# Altium footprint library Sensor_Audio.PcbLib: 9 footprints
Each footprint in its own frame and in the unit in brackets; x right, y up, seen from the top. Pads: shape width x height; smd on the part's side, far side on the other; paste and mask are expansions set on the pad; w line width, h text height; cw(c..) or ccw(c..) is an arc to the next point about the centre after c.
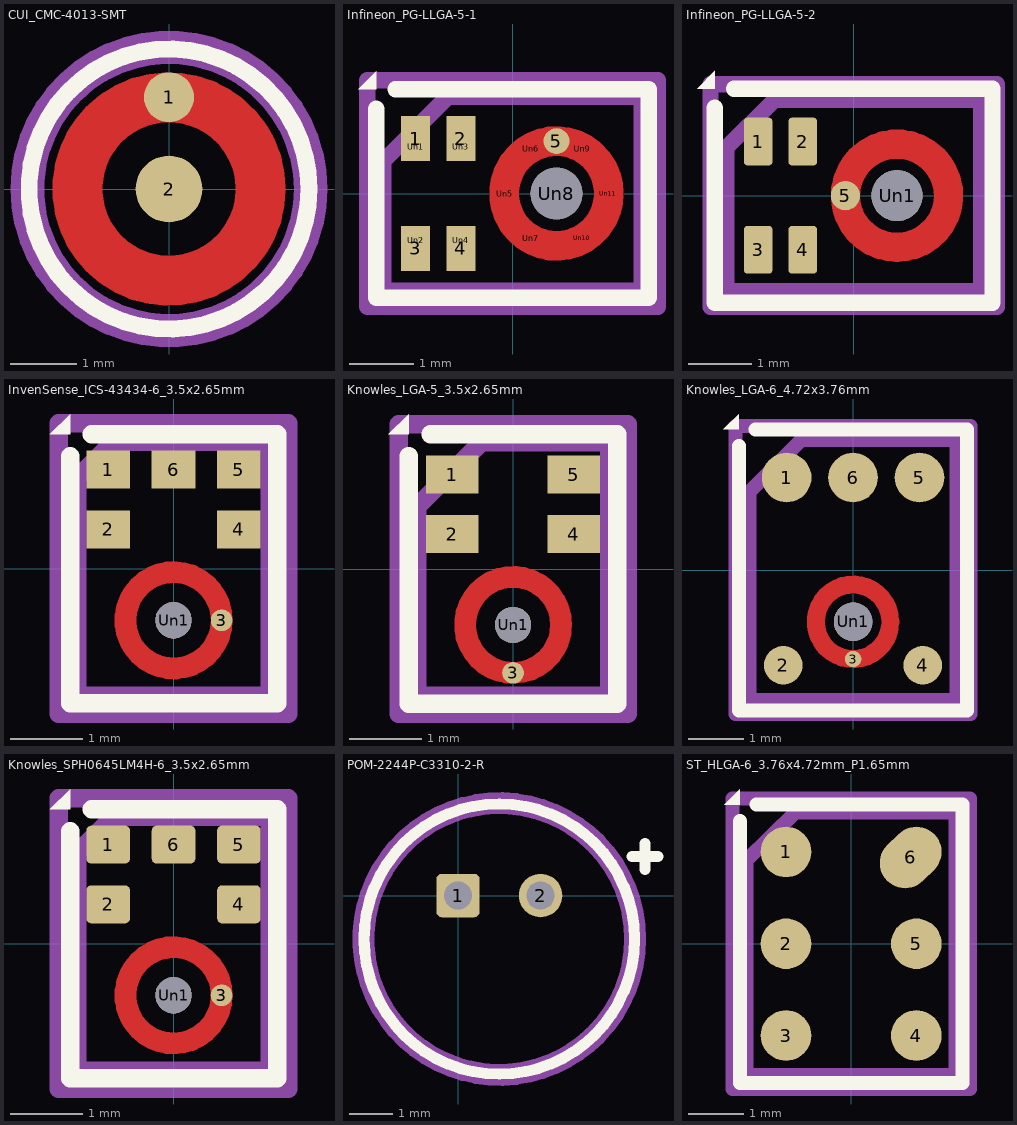
[diagram p0: the footprints below, top view; thin cyan lines are the x and y axes]

## CUI_CMC-4013-SMT [mm]
pads (2):
  round 0.75 smd: 1(0,1.375)
  round 1 smd: 2(0,0)
F.Cu:
  circle w0.75: c0,0 r1.375
F.SilkS:
  circle w0.254: c0,0 r2.1
F.Paste:
  circle w0.75: c0,0 r1.375
F.Mask:
  circle w0.75: c0,0 r1.375
F.Fab:
  circle w0.254: c0,0 r2
  text "'.Designator'" at -3.237,-0.672 h0.8
F.CrtYd:
  circle w0.254: c0,0 r2.25
3D body "CUI_CMC-4013-SMT.step": height 1.3, standoff 0, extent -2,-2 2,2

## Infineon_PG-LLGA-5-1 [mm]
pads (16):
  rect 0.45x0.7 smd: 1(-1.5,0.85) 2(-0.8,0.85) 3(-1.5,-0.85) 4(-0.8,-0.85)
  round 0.4 smd: 5(0.68,0.81)
  round 0.3 on Top Paste: Un1(-1.5,0.725) Un2(-1.5,-0.725) Un3(-0.8,0.725) Un4(-0.8,-0.725) Un5(-0.12,0) Un6(0.28,0.693) Un7(0.28,-0.693) Un9(1.08,0.693) Un10(1.08,-0.693) Un11(1.48,0)
  round 0.8 hole 0.8: Un8(0.68,0)
F.Cu:
  circle w0.46: c0.68,0 r0.81
F.SilkS:
  region: -2.11,1.61 -2.39,1.61 -2.11,1.89
  lines w0.254: -2.11,1.31 -2.11,-1.61 2.11,-1.61 2.11,1.61 -1.81,1.61
F.Paste:
  drawing of 10 lines, arcs and shapes, not listed
F.Mask:
  circle w0.46: c0.68,0 r0.81
F.Fab:
  lines w0.254: -2,-1.5 -2,0.5 -1,1.5 2,1.5 2,-1.5 -2,-1.5
  text "'.Designator'" at -4.047,-0.84 h1
F.CrtYd:
  lines w0.254: -2.25,-1.75 -2.25,1.75 2.25,1.75 2.25,-1.75 -2.25,-1.75

## Infineon_PG-LLGA-5-2 [mm]
pads (6):
  rrect25% 0.45x0.75 smd: 1(-1.5,0.85) 2(-0.8,0.85) 3(-1.5,-0.85) 4(-0.8,-0.85)
  round 0.46 smd: 5(-0.13,0)
  round 0.8 hole 0.8: Un1(0.68,0)
F.Cu:
  circle w0.46: c0.68,0 r0.81
F.SilkS:
  region: -2.18,1.68 -2.46,1.68 -2.18,1.96
  lines w0.254: -2.18,1.38 -2.18,-1.68 2.18,-1.68 2.18,1.68 -1.88,1.68
F.Paste:
  lines w0.254: -1.5,-0.95 -1.5,-0.75 ; -1.5,0.75 -1.5,0.95 ; -0.8,-0.95 -0.8,-0.75 ; -0.8,0.75 -0.8,0.95 ; -0.103,-0.162 cw(c0.68,0) -0.103,0.162 ; 0.148,-0.598 ccw(c0.68,0) 0.428,-0.759 ; 0.148,0.598 cw(c0.68,0) 0.428,0.759 ; 0.932,-0.759 ccw(c0.68,0) 1.212,-0.598 ; 0.932,0.759 cw(c0.68,0) 1.212,0.598 ; 1.463,-0.162 ccw(c0.68,0) 1.463,0.162
F.Mask:
  circle w0.46: c0.68,0 r0.81
F.Fab:
  lines w0.254: -2,-1.5 -2,0.75 -1.25,1.5 2,1.5 2,-1.5 -2,-1.5
  text "'.Designator'" at -2.828,-0.614 h0.7
F.CrtYd:
  lines w0.254: -2.25,-1.75 -2.25,1.75 2.25,1.75 2.25,-1.75 -2.25,-1.75

## InvenSense_ICS-43434-6_3.5x2.65mm [mm]
pads (7):
  rect 0.6x0.522 smd: 1(-0.9,1.364) 2(-0.9,0.542) 4(0.9,0.542) 5(0.9,1.364) 6(0,1.364)
  round 0.3 smd: 3(0.663,-0.71)
  round 0.5 hole 0.5: Un1(0,-0.71)
F.Cu:
  circle w0.3: c0,-0.71 r0.663
F.SilkS:
  region: -1.425,1.85 -1.705,1.85 -1.425,2.13
  lines w0.254: -1.425,1.55 -1.425,-1.85 1.425,-1.85 1.425,1.85 -1.125,1.85
F.Paste:
  region: -0.05,-0.15 -0.16,-0.171 -0.263,-0.213 -0.356,-0.275 -0.435,-0.354 -0.497,-0.447 -0.539,-0.55 -0.56,-0.66 -0.811,-0.66 -0.783,-0.494 -0.723,-0.338 -0.631,-0.198 -0.512,-0.079 -0.372,0.012 -0.216,0.073 -0.05,0.101
  region: -0.539,-0.87 -0.497,-0.973 -0.435,-1.066 -0.356,-1.145 -0.263,-1.207 -0.16,-1.249 -0.05,-1.27 -0.05,-1.521 -0.216,-1.493 -0.372,-1.432 -0.512,-1.341 -0.631,-1.222 -0.723,-1.082 -0.783,-0.925 -0.811,-0.76 -0.56,-0.76
  region: 0.216,0.073 0.372,0.012 0.512,-0.079 0.631,-0.198 0.723,-0.338 0.783,-0.494 0.811,-0.66 0.56,-0.66 0.539,-0.55 0.497,-0.447 0.435,-0.354 0.356,-0.275 0.263,-0.213 0.16,-0.171 0.05,-0.15 0.05,0.101
  region: 0.783,-0.925 0.723,-1.082 0.631,-1.222 0.512,-1.341 0.372,-1.432 0.216,-1.493 0.05,-1.521 0.05,-1.27 0.16,-1.249 0.263,-1.207 0.356,-1.145 0.435,-1.066 0.497,-0.973 0.539,-0.87 0.56,-0.76 0.811,-0.76
  lines w0.254: -1.15,0.331 -0.65,0.331 -0.65,0.753 -1.15,0.753 -1.15,0.331 ; -1.15,1.153 -1.15,1.575 -0.65,1.575 -0.65,1.153 -1.15,1.153 ; -0.25,1.153 -0.25,1.575 0.25,1.575 0.25,1.153 -0.25,1.153 ; 0.65,0.331 0.65,0.753 1.15,0.753 1.15,0.331 0.65,0.331 ; 0.65,1.153 1.15,1.153 1.15,1.575 0.65,1.575 0.65,1.153
F.Mask:
  circle w0.3: c0,-0.71 r0.663
F.Fab:
  lines w0.254: -1.325,-1.75 -1.325,1.25 -0.825,1.75 1.325,1.75 1.325,-1.75 -1.325,-1.75
  text "'.Designator'" at 0.682,-3.257 h0.8
F.CrtYd:
  lines w0.254: -1.58,-2 -1.58,2 1.58,2 1.58,-2 -1.58,-2
3D body "InvenSense_ICS-43434-6_3.5x2.65mm.step": height 0.98, standoff 0, extent -1.325,-1.75 1.325,1.75

## Knowles_LGA-5_3.5x2.65mm [mm]
pads (6):
  rect 0.725x0.522 smd: 1(-0.837,1.304) 2(-0.837,0.482) 4(0.837,0.482) 5(0.837,1.304)
  round 0.3 smd: 3(0,-1.432)
  round 0.5 hole 0.5: Un1(0,-0.77)
F.Cu:
  circle w0.3: c0,-0.77 r0.663
F.SilkS:
  region: -1.44,1.86 -1.72,1.86 -1.44,2.14
  lines w0.254: -1.44,1.56 -1.44,-1.86 1.44,-1.86 1.44,1.86 -1.14,1.86
F.Paste:
  lines w0.254: -0.604,-1.041 ccw(c0,-0.77) -0.28,-1.37 ; -0.6,-0.49 cw(c0,-0.77) -0.271,-0.166 ; 0.271,-1.374 ccw(c0,-0.77) 0.6,-1.05 ; 0.28,-0.17 cw(c0,-0.77) 0.604,-0.498
F.Mask:
  circle w0.3: c0,-0.77 r0.663
F.Fab:
  lines w0.254: -1.325,-1.75 -1.325,0.86 -0.435,1.75 1.325,1.75 1.325,-1.75 -1.325,-1.75
  text "'.Designator'" at 0.583,-2.728 h0.7
F.CrtYd:
  lines w0.254: -1.58,-2 -1.58,2 1.58,2 1.58,-2 -1.58,-2

## Knowles_LGA-6_4.72x3.76mm [mm]
pads (7):
  round 0.9 smd: 1(-1.204,1.678) 5(1.204,1.678) 6(0,1.678)
  round 0.7 smd: 2(-1.265,-1.728) 4(1.265,-1.728)
  round 0.3 smd: 3(0,-1.613)
  round 0.7 hole 0.7: Un1(0,-0.938)
F.Cu:
  circle w0.326: c0,-0.938 r0.675
F.SilkS:
  region: -2.07,2.55 -2.35,2.55 -2.07,2.83
  lines w0.254: -2.07,2.25 -2.07,-2.55 2.07,-2.55 2.07,2.55 -1.77,2.55
F.Paste:
  lines w0.254: -0.607,-1.233 cw(c-0.002,-0.938) -0.607,-0.643 ; -0.295,-1.545 ccw(c0,-0.94) 0.295,-1.545 ; -0.295,-0.331 cw(c0,-0.936) 0.295,-0.331 ; 0.607,-1.233 ccw(c0.002,-0.938) 0.607,-0.643
F.Mask:
  circle w0.326: c0,-0.938 r0.675
F.Fab:
  lines w0.254: -1.88,-2.36 -1.88,1.42 -0.94,2.36 1.88,2.36 1.88,-2.36 -1.88,-2.36
  text "'.Designator'" at 0.583,-2.828 h0.7
F.CrtYd:
  lines w0.254: -2.13,-2.61 -2.13,2.61 2.13,2.61 2.13,-2.61 -2.13,-2.61

## Knowles_SPH0645LM4H-6_3.5x2.65mm [mm]
pads (7):
  rrect25% 0.6x0.522 smd: 1(-0.9,1.364) 2(-0.9,0.542) 4(0.9,0.542) 5(0.9,1.364) 6(0,1.364)
  round 0.3 smd: 3(0.662,-0.71)
  round 0.5 hole 0.5: Un1(0,-0.71)
F.Cu:
  circle w0.3: c0,-0.71 r0.662
F.SilkS:
  region: -1.425,1.85 -1.705,1.85 -1.425,2.13
  lines w0.254: -1.425,1.55 -1.425,-1.85 1.425,-1.85 1.425,1.85 -1.125,1.85
F.Paste:
  region: -0.426,-0.425 -0.468,-0.501 -0.496,-0.582 -0.511,-0.667 -0.511,-0.753 -0.496,-0.838 -0.468,-0.919 -0.426,-0.995 -0.641,-1.209 -0.723,-1.08 -0.78,-0.937 -0.809,-0.787 -0.809,-0.633 -0.78,-0.483 -0.723,-0.34 -0.641,-0.211
  region: 0.227,0.07 0.37,0.013 0.499,-0.069 0.285,-0.284 0.209,-0.242 0.128,-0.214 0.043,-0.199 -0.043,-0.199 -0.128,-0.214 -0.209,-0.242 -0.285,-0.284 -0.499,-0.069 -0.37,0.013 -0.227,0.07 -0.077,0.099 0.077,0.099
  region: 0.499,-1.351 0.37,-1.433 0.227,-1.49 0.077,-1.519 -0.077,-1.519 -0.227,-1.49 -0.37,-1.433 -0.499,-1.351 -0.285,-1.136 -0.209,-1.178 -0.128,-1.206 -0.043,-1.221 0.043,-1.221 0.128,-1.206 0.209,-1.178 0.285,-1.136
  region: 0.723,-0.34 0.78,-0.483 0.809,-0.633 0.809,-0.787 0.78,-0.937 0.723,-1.08 0.641,-1.209 0.426,-0.995 0.468,-0.919 0.496,-0.838 0.511,-0.753 0.511,-0.667 0.496,-0.582 0.468,-0.501 0.426,-0.425 0.641,-0.211
F.Mask:
  circle w0.3: c0,-0.71 r0.662
F.Fab:
  lines w0.254: -1.325,-1.75 -1.325,1.25 -0.825,1.75 1.325,1.75 1.325,-1.75 -1.325,-1.75
  text "'.Designator'" at 0.682,-3.257 h0.8
F.CrtYd:
  lines w0.254: -1.58,-2 -1.58,2 1.58,2 1.58,-2 -1.58,-2
3D body "Knowles_SPH0645LM4H-6_3.5x2.65mm.step": height 0.98, standoff 0, extent -1.325,-1.75 1.325,1.75

## POM-2244P-C3310-2-R [mm]
pads (2):
  rrect25% 1x1 hole 0.65: 1(0,0)
  round 1 hole 0.65: 2(1.9,0)
F.SilkS:
  circle w0.254: c0.95,-1 r3.11
  lines w0.254: 4,0.9 4.3,0.9 4.6,0.9 ; 4.3,0.6 4.3,1.2
F.Fab:
  circle w0.254: c0.95,-1 r3
  text "'.Designator'" at -3.097,-1.84 h1
F.CrtYd:
  circle w0.254: c0.95,-1 r3.25
3D body "POM-2244P-C3310-2-R.step": height 2.54, standoff -2.66, extent -2.05,-4 3.95,2

## ST_HLGA-6_3.76x4.72mm_P1.65mm [mm]
pads (6):
  round 0.91 smd: 1(-1.17,1.65) 2(-1.17,0) 3(-1.17,-1.65) 4(1.17,-1.65) 5(1.17,0)
  rrect100% 1.193x0.91 smd rot 45: 6(1.07,1.55)
F.SilkS:
  region: -2,2.5 -2.28,2.5 -2,2.78
  lines w0.254: -2,2.2 -2,-2.5 2,-2.5 2,2.5 -1.7,2.5
F.Fab:
  lines w0.254: -1.88,-2.36 1.88,-2.36 1.88,2.36 -1,2.36 -1.88,1.5 -1.88,-2.36
  text "'.Designator'" at 0.415,-2.018 h0.5
F.CrtYd:
  lines w0.254: -2.13,-2.61 2.13,-2.61 2.13,2.61 -2.13,2.61 -2.13,-2.61
3D body "ST_HLGA-6_3.76x4.72mm_P1.65mm.step": height 1.25, standoff -0.01, extent -1.88,-2.36 1.88,2.36